# Altium footprint library PcbLib3.PcbLib: 35 footprints (part 1 of 3)
Each footprint in its own frame and in the unit in brackets; x right, y up, seen from the top. Pads: shape width x height; smd on the part's side, far side on the other; paste and mask are expansions set on the pad; w line width, h text height; cw(c..) or ccw(c..) is an arc to the next point about the centre after c.
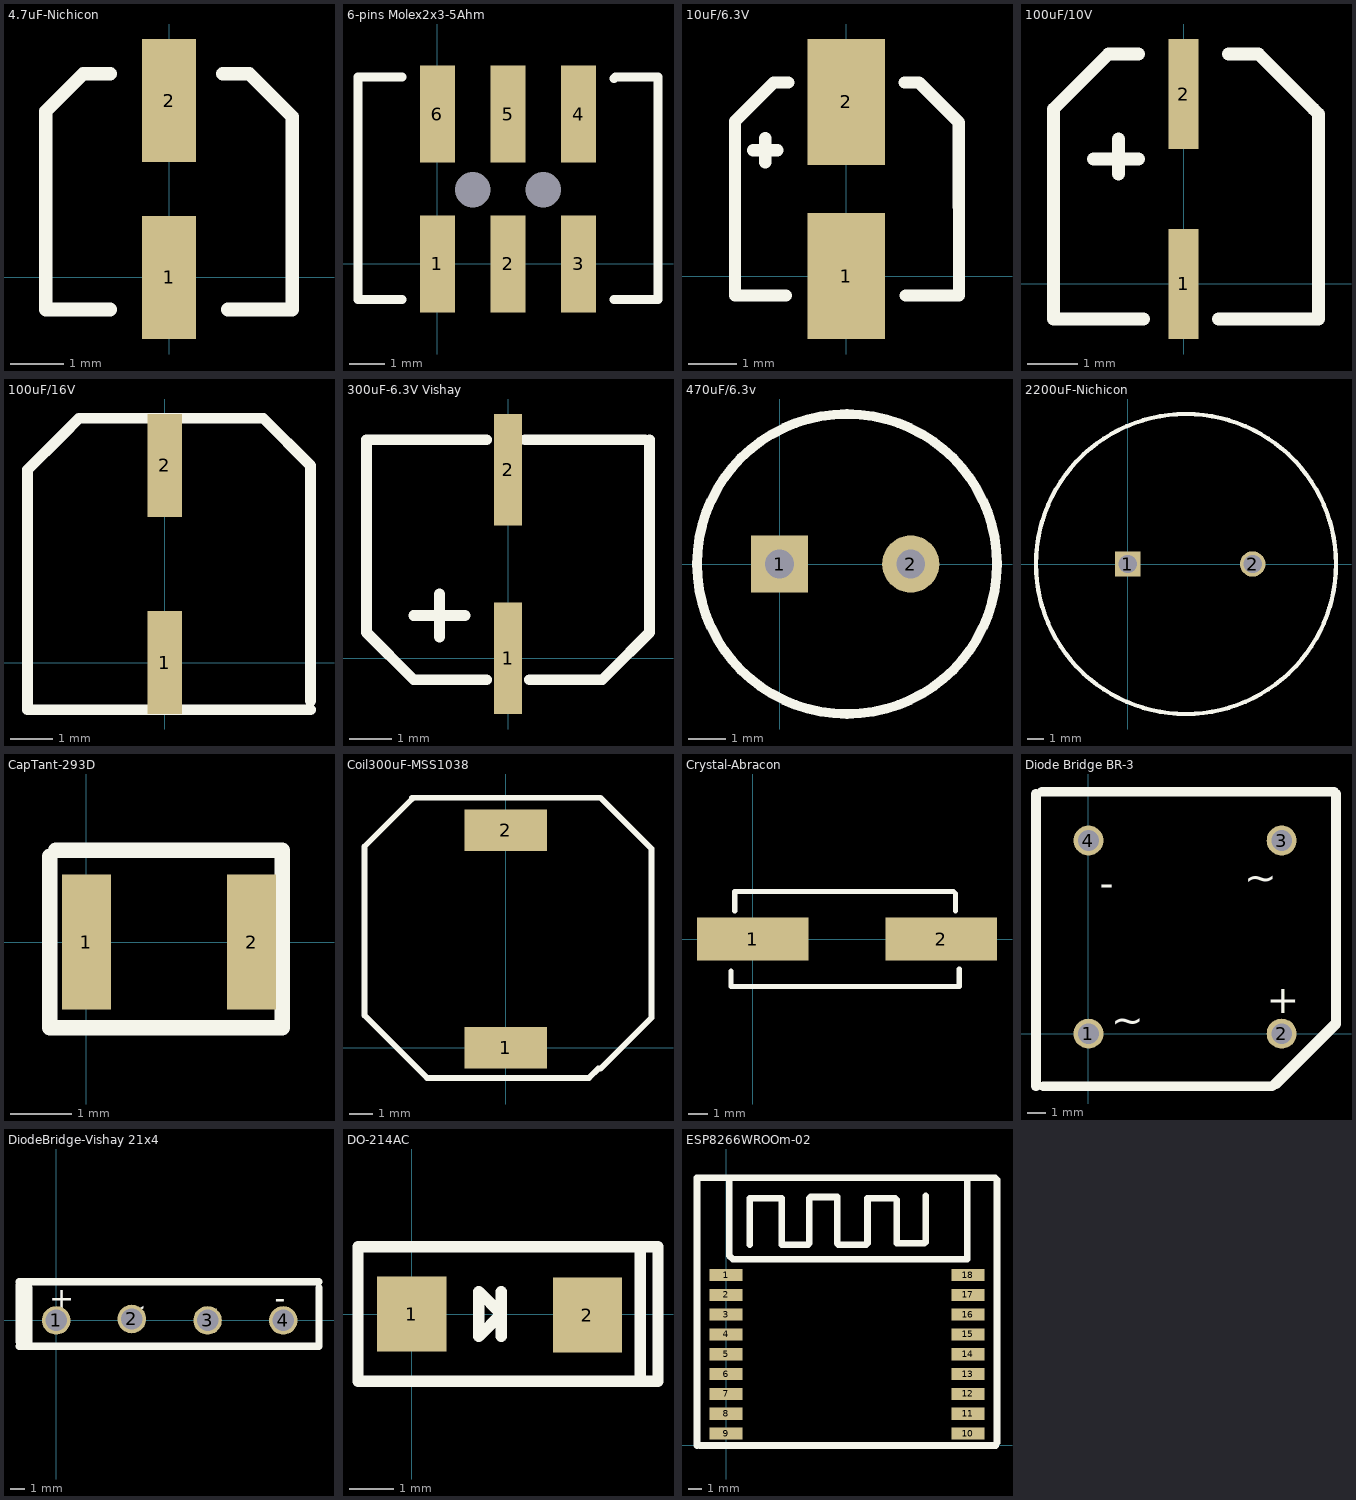
[diagram p0: the footprints below, top view; thin cyan lines are the x and y axes]

## 4.7uF-Nichicon [mm]
pads (2):
  rect 1x2.3 smd: 1(0,0) 2(0,3.3)
Top Overlay:
  lines w0.254: -1.1,-0.6 -2.3,-0.6 -2.3,3.1 -1.6,3.8 -1.1,3.8 ; 1,3.8 1.5,3.8 2.3,3 2.3,-0.6 1.1,-0.6

## 6-pins Molex2x3-5Ahm [mm] "current transformer"
pads (8):
  rect 1x2.75 smd: 1(0,0) 2(2,0) 3(4,0) 4(4,4.25) 5(2,4.25) 6(0,4.25)
  round 0 hole 1: 4(1,2.1) 5(3,2.1)
Top Overlay:
  lines w0.254: -1,-1 -2.25,-1 -2.25,5.3 -1,5.3 ; 5,-1 6.25,-1 6.25,5.3 5.05,5.3 5,5.25

## 10uF/6.3V [mm] "Wurth Electronics"
pads (2):
  rect 1.6x2.6 smd: 1(0,0) 2(0,3.6)
Top Overlay:
  lines w0.254: -1.925,2.6 -1.425,2.6 ; -1.675,2.35 -1.675,2.85 ; -1.25,-0.4 -2.3,-0.4 -2.3,3.2 -1.5,4 -1.2,4 ; 1.2,4 1.5,4 2.325,3.175 2.325,-0.4 1.225,-0.4

## 100uF/10V [mm] "Nichicon"
pads (2):
  rect 0.6x2.2 smd: 1(0,0) 2(0,3.8)
Top Overlay:
  lines w0.254: -1.8,2.5 -0.9,2.5 ; -1.3,2.2 -1.3,2.9 ; -0.9,4.6 -1.5,4.6 -2.6,3.5 -2.6,-0.7 -0.8,-0.7 ; 0.7,-0.7 2.7,-0.7 2.7,3.4 2.6,3.5 1.5,4.6 0.9,4.6

## 100uF/16V [mm]
pads (2):
  rect 0.8x2.4 smd: 1(0,0) 2(0,4.6)
Top Overlay:
  lines w0.254: 3.4,-1.1 -3.2,-1.1 -3.2,4.5 ; 3.4,-0.9 3.4,4.6 2.3,5.7 -2,5.7 -2.4,5.3 -3.2,4.5 ; -3.2,4.5 -3.2,4.5

## 300uF-6.3V Vishay [mm] "polar capacitor"
pads (2):
  rect 0.65x2.6 smd: 1(0,0) 2(0,4.4)
Top Overlay:
  lines w0.254: -2.2,1 -1,1 ; -1.6,0.5 -1.6,1.5 ; -0.5,-0.5 -2.2,-0.5 -3.3,0.6 -3.3,0.9 -3.3,5.1 -0.5,5.1 ; 0.4,5.1 3.2,5.1 ; 0.5,-0.5 1.4,-0.5 2.2,-0.5 2.35,-0.35 3.3,0.6 3.3,5.1

## 330uF/6.3v-kemet [mm]

## 470uF/6.3v [mil]
pads (2):
  rect 60x60 hole 30: 1(0,0)
  round 60 hole 30: 2(137.8,0)
Top Overlay:
  circle w10: c70.87,0 r157.48

## 2200uF-Nichicon [mil]
pads (2):
  rect 60x60 hole 43.31: 1(0,0)
  round 60 hole 43.31: 2(295.28,0)
Top Overlay:
  circle w10: c137.8,0 r354.33

## CapTant-293D [mm] "tantal capacitor 4.7uF-Vishay"
pads (2):
  rect 0.8x2.2 smd: 1(0,0) 2(2.7,0)
Top Overlay:
  lines w0.254: -0.6,1.4 -0.6,-1.4 3.2,-1.4 3.2,1.5 -0.5,1.5

## Coil300uF-MSS1038 [mm]
pads (2):
  rect 3.56x1.78 smd: 1(0,0) 2(0,9.4)
Top Overlay:
  lines w0.254: -4.05,10.75 -6.1,8.7 -6.1,1.4 -3.4,-1.3 3.6,-1.3 4,-0.9 4.1,-0.9 6.3,1.3 6.3,8.6 4.1,10.8 -4.05,10.8

## Crystal-Abracon [mm]
pads (2):
  rect 5.6x2.14 smd: 1(0,0) 2(9.5,0)
Top Overlay:
  lines w0.254: -1.1,-1.6 -1.1,-2.4 10.3,-2.4 ; -0.9,1.4 -0.9,2.4 10.1,2.4 10.2,2.3 10.2,1.4 ; 10.4,-2.4 10.4,-1.5

## Diode Bridge BR-3 [mm]
pads (4):
  round 1.6 hole 1.1: 1(0,0) 2(10.3,0) 3(10.3,10.3) 4(0,10.3)
Top Overlay:
  lines w0.508: -2.8,-2.8 -2.8,12.8 ; -2.5,12.9 13.1,12.9 ; -2.4,-2.8 9.8,-2.8 13.2,0.6 ; 10,-2.7 13.2,0.5 13.2,12.8
  text "-" at 0.6,7.3 h1.52
  text "~" at 8.3,7.6 h1.52
  text "~" at 1.2,0 h1.52
  text "+" at 9.5,1.1 h1.52

## DiodeBridge-Vishay 21x4 [mm]
pads (4):
  round 2 hole 1.5: 1(0,0) 2(5.3,0.1) 3(10.6,0) 4(15.9,0)
Top Overlay:
  lines w0.508: -2.6,-1.8 18.4,-1.8 18.4,2.3 ; -2.6,-1.5 -2.6,2.5 ; -2.6,2.7 18.4,2.7 ; -2.2,-1.4 -2.2,2.7 ; -1.9,-1.8 -1.9,-1.3 -1.9,2.3
  text "+" at -0.5,0.8 h1.52
  text "~" at 4.6,0.2 h1.52
  text "~" at 9.7,0 h1.52
  text "-" at 15.3,0.8 h1.52

## DO-214AC [mm] "SMD 1N4001"
pads (2):
  rect 1.55x1.67 smd: 1(0,0) 2(3.925,-0.025)
Top Overlay:
  lines w0.254: 2,-0.5 2,0.5 ; 5.1,-1.4 5.1,1.5 ; 1.5,0.5 1.5,0.5 ; 1.5,0.5 2,0 ; 1.5,0.5 1.5,-0.5 2,0 ; 2,0 2,0 ; -1.2,-1.5 -1.2,1.5 5.5,1.5 5.5,1 5.5,-1 5.5,-1.5 -1.2,-1.5

## ESP8266WROOm-02 [mm]
pads (18):
  rect 2.5x0.92 smd: 1(0,12.9) 2(0,11.4) 3(0,9.9) 4(0,8.4) 5(0,6.9) 6(0,5.4) 7(0,3.9) 8(0,2.4) 9(0,0.9) 10(18.3,0.9) 11(18.3,2.4) 12(18.3,3.9) 13(18.3,5.4) 14(18.3,6.9) 15(18.3,8.4) 16(18.3,9.9) 17(18.3,11.4) 18(18.3,12.9)
Top Overlay:
  lines w0.5: -2.2,0 -2.2,20.25 0.25,20.25 ; -2,0 20.4,0 ; 1.8,15.2 1.8,18.7 4.2,18.7 4.2,15.2 6.2,15.2 6.3,15.3 6.3,18.7 6.4,18.8 8.4,18.8 8.4,15.3 8.5,15.2 10.6,15.2 10.7,15.3 10.7,18.7 10.8,18.7 12.8,18.7 12.9,18.6 12.9,15.3 15,15.3 15.1,15.4 15.1,18.9 ; 20.5,0.2 20.5,20.1 ; 0.25,20.25 0.25,14.35 0.5,14.1 18.25,14.1 18.25,20.25 ; 0.25,20.25 18.25,20.25 ; 18.25,20.25 20.35,20.25 ; 20.35,20.25 20.5,20.1 ; 20.35,20.25 20.5,20.1